# EAGLE library part SN3218 (library pimoroni)
SN3218 16-channel LED driver
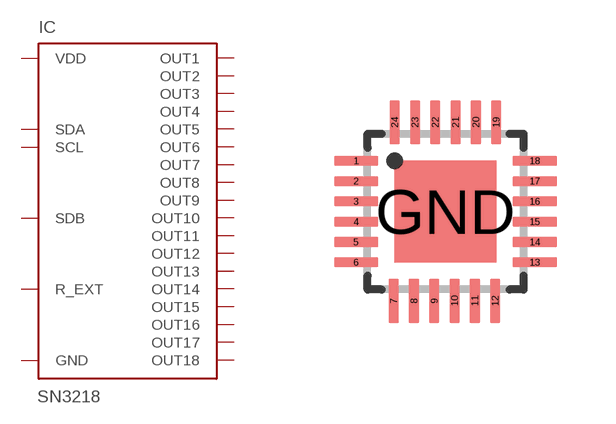
[diagram p2: symbol with the pads of QFN24; footprint QFN24]

Designator prefix IC

## SN3218  [QFN24]
1  OUT18
2  R_EXT
3  VDD
4  GND
5  SDA
6  SCL
7  OUT1
8  OUT2
9  OUT3
10  OUT4
11  OUT5
12  OUT6
13  OUT7
14  OUT8
15  OUT9
16  OUT10
17  OUT11
18  OUT12
19  OUT13
20  OUT14
21  OUT15
22  OUT16
23  OUT17
24  SDB
GND  GND

## Footprint QFN24 (pad centres in mm)
QFN 4x4 mm
smd 1.108 x 0.254: 1 -2.235,1.27; 2 -2.235,0.762; 3 -2.235,0.254; 4 -2.235,-0.254; 5 -2.235,-0.762; 6 -2.235,-1.27; 13 2.235,-1.27; 14 2.235,-0.762; 15 2.235,-0.254; 16 2.235,0.254; 17 2.235,0.762; 18 2.235,1.27
smd 0.254 x 1.108: 7 -1.295,-2.235; 8 -0.787,-2.235; 9 -0.279,-2.235; 10 0.229,-2.235; 11 0.737,-2.235; 12 1.245,-2.235; 19 1.27,2.235; 20 0.762,2.235; 21 0.254,2.235; 22 -0.254,2.235; 23 -0.762,2.235; 24 -1.27,2.235
smd 2.54 x 2.54: GND 0,0